# EAGLE library part 10132798-011100LF (library ck)
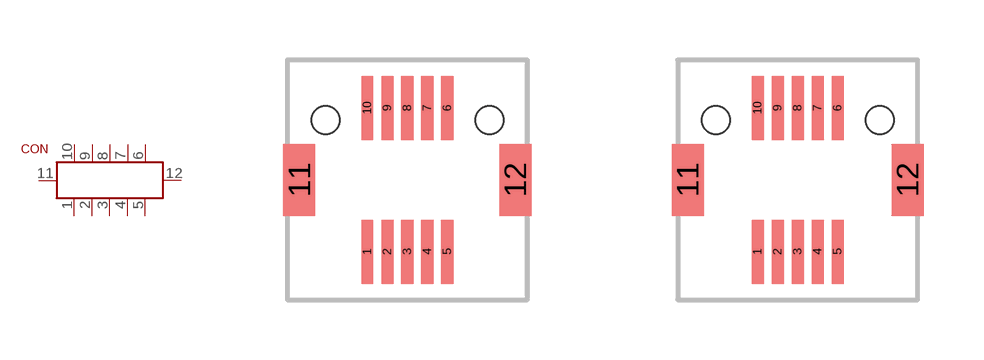
[diagram p23: symbol with the pads of 10132798-011100LF; footprints 10132798-011100LF, 10132797-011100LF]

Designator prefix CON

## 10132798-011100LFREC  [10132798-011100LF]
1  1
2  2
3  3
4  4
5  5
6  6
7  7
8  8
9  9
10  10
11  P$1
12  P$2

## 10132798-011100LFPLG  [10132797-011100LF]
Pads as for 10132798-011100LF

## Footprint 10132798-011100LF (pad centres in mm)
smd 0.3 x 1.6: 1 -1,-1.8; 2 -0.5,-1.8; 3 0,-1.8; 4 0.5,-1.8; 5 1,-1.8; 6 1,1.8; 7 0.5,1.8; 8 0,1.8; 9 -0.5,1.8; 10 -1,1.8
smd 0.8 x 1.8: 11 -2.7,0; 12 2.7,0
hole 0.7 at -2.05,1.5
hole 0.7 at 2.05,1.5

## Footprint 10132797-011100LF (pad centres in mm)
2.3 mm stack 0.5 mm pitch 2x5 pos Amphenol Plug
smd 0.3 x 1.6: 1 -1,-1.8; 2 -0.5,-1.8; 3 0,-1.8; 4 0.5,-1.8; 5 1,-1.8; 6 1,1.8; 7 0.5,1.8; 8 0,1.8; 9 -0.5,1.8; 10 -1,1.8
smd 0.8 x 1.8: 11 -2.75,0; 12 2.75,0
hole 0.7 at -2.05,1.5
hole 0.7 at 2.05,1.5